# Altium schematic symbol library 模块.SchLib: 8 symbols
Pins are listed as number, name and electrical type; pins without a type are passive.

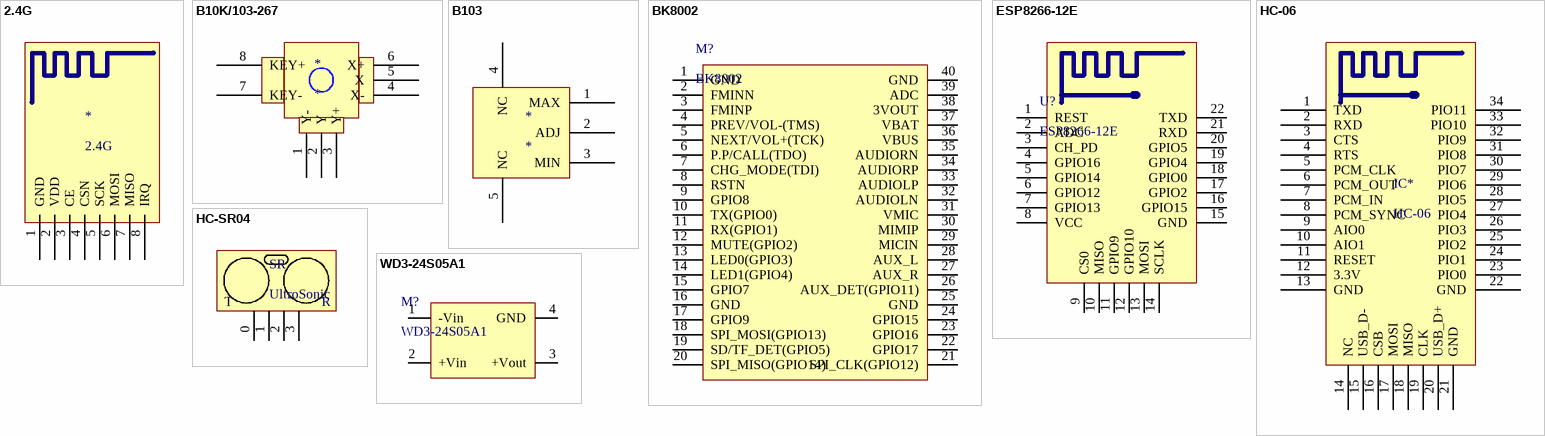
[diagram p0: symbols 2.4G to WD3-24S05A1]

## 2.4G
designator *
2.4G无线模块
footprint AS01-MS01S (成都泽耀科技2.4G无线收发模块)
footprint AS01-MS01SP2 (成都泽耀科技2.4G无线收发模块)
footprint 直插2.4G-1.27 (单排1.27mm脚距)
footprint 直插2.4G-2.54 (4*2脚距2.54mm)
footprint AS01-ML01DP5 (成都泽耀科技2.4G无线收发模块)
pins: 1 GND, 2 VDD, 3 CE, 4 CSN, 5 SCK, 6 MOSI, 7 MISO, 8 IRQ

## B10K/103-267
designator *
摇杆电位器
footprint B10K/103-267 (摇杆电位器带按键)
pins: 1 Y-, 2 Y, 3 Y+, 4 X-, 5 X, 6 X+, 7 KEY-, 8 KEY+

## B103
designator *
10K旋钮电位器
footprint B103 (10K旋钮电位器)
pins: 1 MAX, 2 ADJ, 3 MIN, 4 NC, 5 NC

## BK8002
designator M?
蓝牙模块，带FM; BOM名称: 蓝牙立体声模块; 版权归属: 源创客; 学习资源: www.ooocke.com
footprint BK8002
pins: 1 GND, 2 FMINN, 3 FMINP, 4 PREV/VOL-(TMS), 5 NEXT/VOL+(TCK), 6 P.P/CALL(TDO), 7 CHG_MODE(TDI), 8 RSTN, 9 GPIO8, 10 TX(GPIO0), 11 RX(GPIO1), 12 MUTE(GPIO2), 13 LED0(GPIO3), 14 LED1(GPIO4), 15 GPIO7, 16 GND, 17 GPIO9, 18 SPI_MOSI(GPIO13), 19 SD/TF_DET(GPIO5), 20 SPI_MISO(GPIO14), 21 SPI_CLK(GPIO12), 22 GPIO17, 23 GPIO16, 24 GPIO15, 25 GND, 26 AUX_DET(GPIO11), 27 AUX_R, 28 AUX_L, 29 MICIN, 30 MIMIP, 31 VMIC, 32 AUDIOLN, 33 AUDIOLP, 34 AUDIORP, 35 AUDIORN, 36 VBUS, 37 VBAT, 38 3VOUT, 39 ADC, 40 GND

## ESP8266-12E
designator U?
串口 WIFI模块，ESP-12E; BOM名称: WIFI模块; 版权归属: 源创客; 学习资源: www.ooocke.com
footprint ESP_12E (ESP-12 Wi-Fi Module by AI-Thinker)
pins: 1 REST, 2 ADC, 3 CH_PD, 4 GPIO16, 5 GPIO14, 6 GPIO12, 7 GPIO13, 8 VCC, 9 CS0, 10 MISO, 11 GPIO9, 12 GPIO10, 13 MOSI, 14 SCLK, 15 GND, 16 GPIO15, 17 GPIO2, 18 GPIO0, 19 GPIO4, 20 GPIO5, 21 RXD, 22 TXD

## HC-06
designator IC*
无线蓝牙模块2.0
footprint HC-06 (无线蓝牙模块2.0)
pins: 1 TXD, 2 RXD, 3 CTS, 4 RTS, 5 PCM_CLK, 6 PCM_OUT, 7 PCM_IN, 8 PCM_SYNC, 9 AIO0, 10 AIO1, 11 RESET, 12 3.3V, 13 GND, 14 NC, 15 USB_D-, 16 CSB, 17 MOSI, 18 MISO, 19 CLK, 20 USB_D+, 21 GND, 22 GND, 23 PIO0, 24 PIO1, 25 PIO2, 26 PIO3, 27 PIO4, 28 PIO5, 29 PIO6, 30 PIO7, 31 PIO8, 32 PIO9, 33 PIO10, 34 PIO11

## HC-SR04
designator SR, comment UltroSonic
超声波测距模块
footprint HC-SR04 (超声波测距模块)
pins: 0 VCC, 1 Trig, 2 Echo, 3 GND
text: T; R

## WD3-24S05A1
designator M?
24V转5V模块; 版权归属: 源创客; BOM名称: 24V转5V模块; 学习资源: www.ooocke.com
footprint WD-24S05A1 (3W-24V转5V模块)
pins: 1 -Vin, 2 +Vin, 3 +Vout, 4 GND